# EAGLE library part DIP-BLUE-MALE-HEADER-VERT(2X3P-2.54) (library OPL-Connector)
320020003
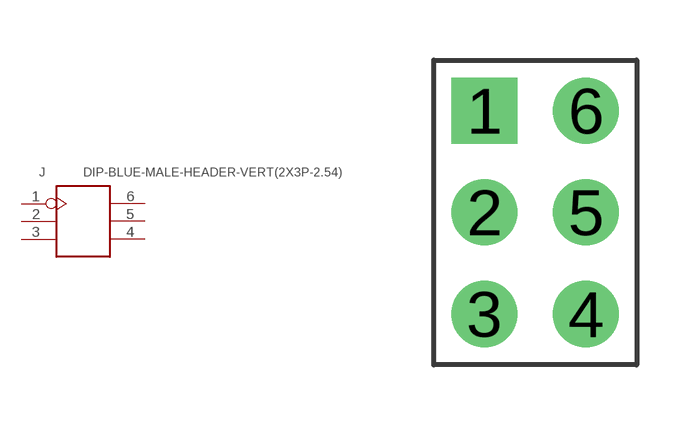
[diagram p2: symbol with the pads of H2X3-2.54; footprint H2X3-2.54]

Designator prefix J

## DIP-BLUE-MALE-HEADER-VERT(2X3P-2.54) (MPN: P125-1203A0BS116A1)  [H2X3-2.54]
1  1
2  2
3  3
4  4
5  5
6  6

## Footprint H2X3-2.54 (pad centres in mm)
drill 0.889 pad 1.651 square: 1 -1.27,2.54
drill 0.889 pad 1.651: 2 -1.27,0; 3 -1.27,-2.54; 4 1.27,-2.54; 5 1.27,0; 6 1.27,2.54